# Altium footprint library relay.PCBLIB: 291 footprints (part 7 of 19)
Each footprint in its own frame and in the unit in brackets; x right, y up, seen from the top. Pads: shape width x height; smd on the part's side, far side on the other; paste and mask are expansions set on the pad; w line width, h text height; cw(c..) or ccw(c..) is an arc to the next point about the centre after c.
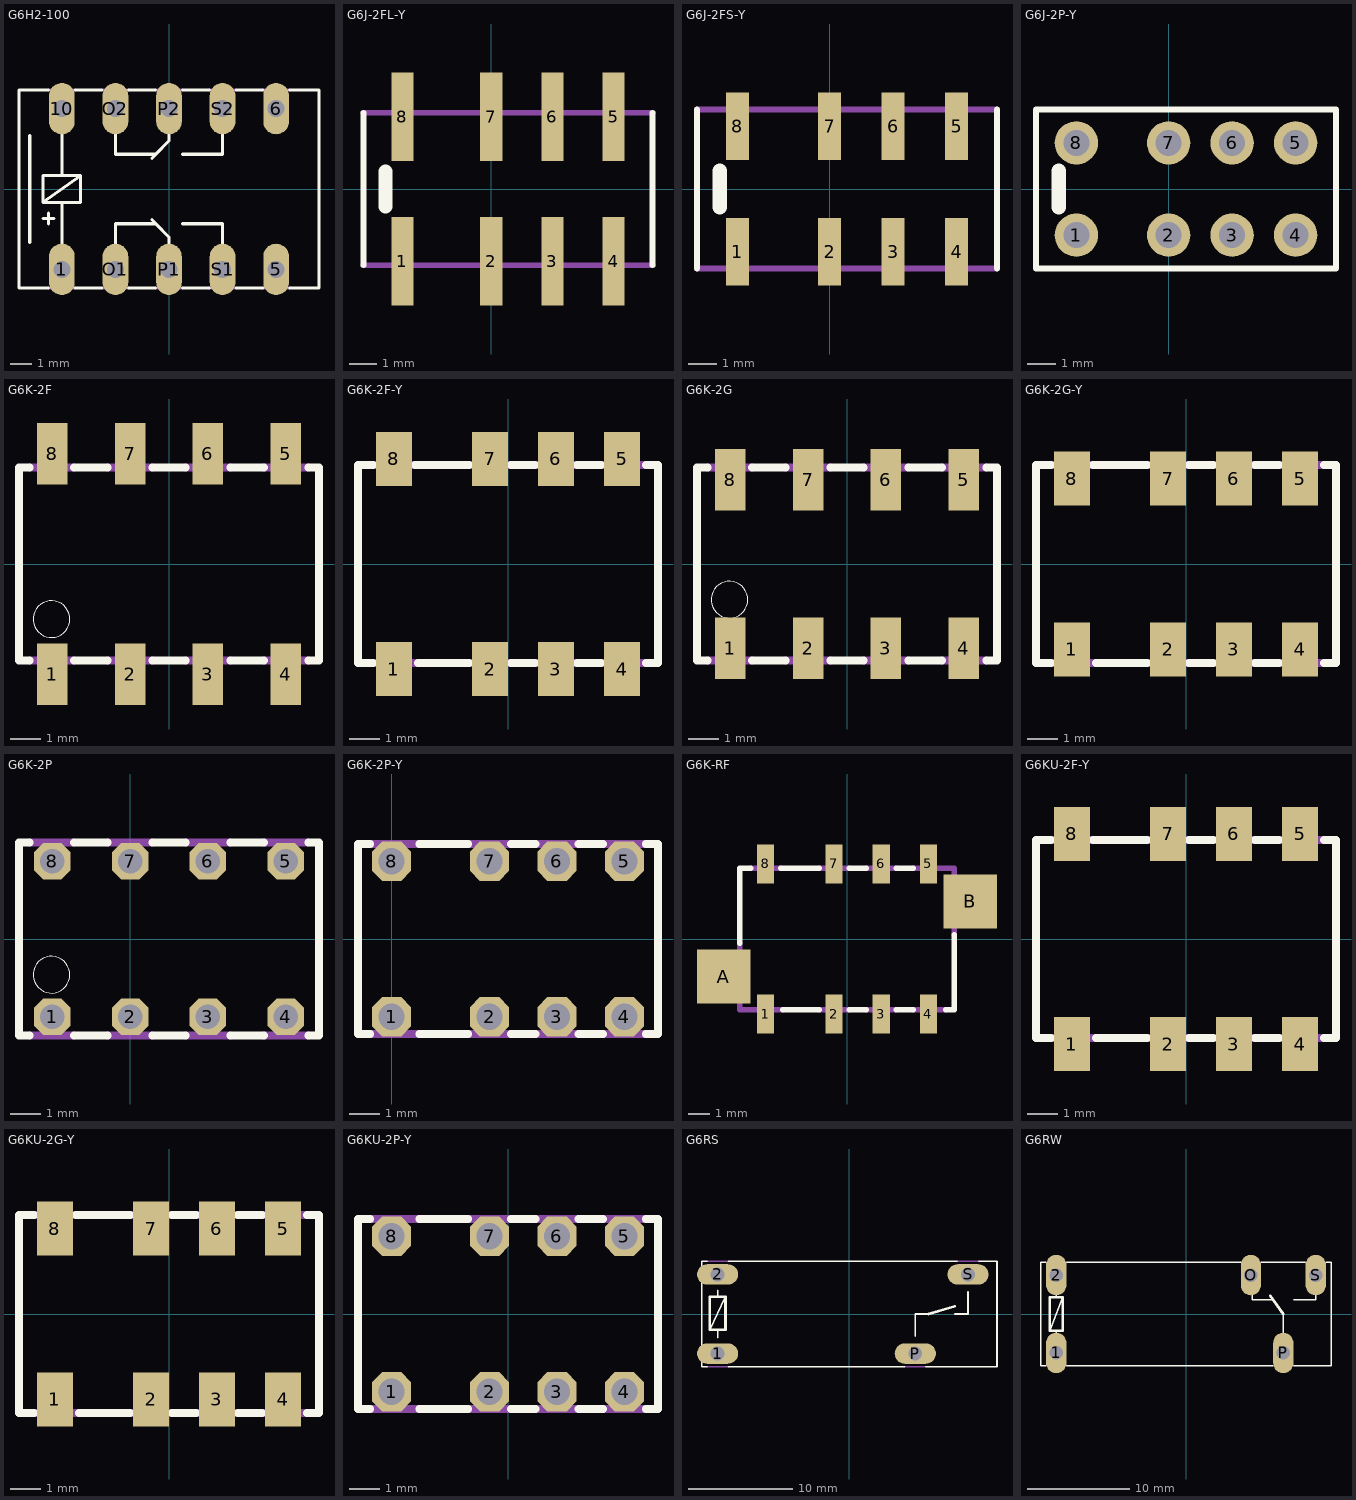
[diagram p6: the footprints below, top view; thin cyan lines are the x and y axes]

## G6H2-100 [mil]
pads (10):
  oval 48x96 hole 32: 1(-200,-150) 5(200,-150) 6(200,150) 10(-200,150) O1(-100,-150) O2(-100,150) P1(0,-150) P2(0,150) S1(100,-150) S2(100,150)
Top Overlay:
  lines w6: -260,-100 -260,100 ; -235,-55 -215,-55 ; -225,-185 -280,-185 -280,185 -225,185 ; -225,-65 -225,-45 ; -200,-115 -200,-25 ; -200,115 -200,25 ; -175,-185 -125,-185 ; -175,185 -125,185 ; -100,-115 -100,-65 -25,-65 ; -100,115 -100,65 -25,65 ; -75,-185 -25,-185 ; -75,185 -25,185 ; -32,-57 -25,-65 ; -32,57 -25,65 ; 0,-115 0,-90 -25,-65 ; 0,115 0,90 -25,65 ; 25,-185 75,-185 ; 25,-65 100,-65 100,-115 ; 25,65 100,65 100,115 ; 25,185 75,185 ; 125,-185 175,-185 ; 125,185 175,185 ; 225,-185 280,-185 280,185 225,185 ; -235,-25 -235,25 -200,25 ; -235,-25 -200,-25 ; -235,-25 -165,25 ; -200,-25 -165,-25 -165,25 ; -200,25 -165,25
Mechanical 16:
  lines w6: -225,-185 -175,-185 ; -225,185 -175,185 ; -125,-185 -75,-185 ; -125,185 -75,185 ; -25,-185 25,-185 ; -25,185 25,185 ; 75,-185 125,-185 ; 75,185 125,185 ; 175,-185 225,-185 ; 175,185 225,185
  text "G6H" at 265,-100 h60.45

## G6J-2FL-Y [mil]
pads (8):
  rect 31.5x125.98 smd: 1(-125.98,-102.36) 2(0,-102.36) 3(86.61,-102.36) 4(173.23,-102.36) 5(173.23,102.36) 6(86.61,102.36) 7(0,102.36) 8(-125.98,102.36)
Top Overlay:
  lines w8: -181.1,-108.27 -181.1,108.27 ; 228.35,-108.27 228.35,108.27
  lines w20: -150,-25 -150,25
Mechanical 16:
  lines w8: -181.1,-108.27 228.35,-108.27 ; -181.1,108.27 228.35,108.27

## G6J-2FS-Y [mm]
pads (8):
  rect 0.8x2.35 smd: 1(-3.2,-2.175) 2(0,-2.175) 3(2.2,-2.175) 4(4.4,-2.175) 5(4.4,2.175) 6(2.2,2.175) 7(0,2.175) 8(-3.2,2.175)
Top Overlay:
  lines w0.203: -4.6,-2.75 -4.6,2.75 ; 5.8,-2.75 5.8,2.75
  lines w0.508: -3.81,-0.635 -3.81,0.635
Mechanical 16:
  lines w0.203: -4.6,-2.75 5.8,-2.75 ; -4.6,2.75 5.8,2.75

## G6J-2P-Y [mil]
pads (8):
  round 59.06 hole 35.43: 1(-125.98,-62.99) 2(0,-62.99) 3(86.61,-62.99) 4(173.23,-62.99) 5(173.23,62.99) 6(86.61,62.99) 7(0,62.99) 8(-125.98,62.99)
Top Overlay:
  lines w8: -181.1,-108.27 228.35,-108.27 228.35,108.27 -181.1,108.27 -181.1,-108.27
  lines w20: -150,-25 -150,25

## G6K-2F [mm]
pads (8):
  rect 1x2 smd: 1(-3.81,-3.6) 2(-1.27,-3.6) 3(1.27,-3.6) 4(3.81,-3.6) 5(3.81,3.6) 6(1.27,3.6) 7(-1.27,3.6) 8(-3.81,3.6)
Top Overlay:
  circle w0: c-3.84,-1.8 r0.6
  lines w0.254: -4.55,-3.15 -4.9,-3.15 -4.9,3.15 -4.55,3.15 ; -3.1,-3.15 -2,-3.15 ; -3.1,3.15 -2,3.15 ; -0.55,-3.15 0.55,-3.15 ; -0.55,3.15 0.55,3.15 ; 2,-3.15 3.1,-3.15 ; 2,3.15 3.1,3.15 ; 4.55,-3.15 4.9,-3.15 4.9,3.15 4.55,3.15
Mechanical 16:
  rectangle: -4.06,-3.9 -3.56,-3.2
  rectangle: -1.52,-3.9 -1.02,-3.2
  rectangle: 1.02,-3.9 1.52,-3.2
  rectangle: 3.56,-3.9 4.06,-3.2
  rectangle: -4.06,3.2 -3.56,3.9
  rectangle: -1.52,3.2 -1.02,3.9
  rectangle: 1.02,3.2 1.52,3.9
  rectangle: 3.56,3.2 4.06,3.9
  lines w0.254: -4.55,-3.15 -3.1,-3.15 ; -4.55,3.15 -3.1,3.15 ; -2,-3.15 -0.55,-3.15 ; -2,3.15 -0.55,3.15 ; 0.55,-3.15 2,-3.15 ; 0.55,3.15 2,3.15 ; 3.1,-3.15 4.55,-3.15 ; 3.1,3.15 4.55,3.15

## G6K-2F-Y [mil]
pads (8):
  rect 47.24x70.87 smd: 1(-149.61,-137.8) 2(-23.62,-137.8) 3(62.99,-137.8) 4(149.61,-137.8) 5(149.61,137.8) 6(62.99,137.8) 7(-23.62,137.8) 8(-149.61,137.8)
Top Overlay:
  lines w10: -177.17,-129.92 -196.85,-129.92 -196.85,129.92 -177.17,129.92 ; -122.05,129.92 -51.18,129.92 ; -118.11,-129.92 -51.18,-129.92 ; 3.94,-129.92 35.43,-129.92 ; 3.94,129.92 35.43,129.92 ; 90.55,-129.92 122.05,-129.92 ; 90.55,129.92 122.05,129.92 ; 181.1,-129.92 196.85,-129.92 196.85,129.92 181.1,129.92
Mechanical 16:
  rectangle: -159.45,-153.54 -139.76,-133.86
  rectangle: -33.46,-153.54 -13.78,-133.86
  rectangle: 53.15,-153.54 72.83,-133.86
  rectangle: 139.76,-153.54 159.45,-133.86
  rectangle: 139.76,133.86 159.45,153.54
  rectangle: 53.15,133.86 72.83,153.54
  rectangle: -33.46,133.86 -13.78,153.54
  rectangle: -159.45,133.86 -139.76,153.54
  lines w10: -177.17,-129.92 -118.11,-129.92 ; -177.17,129.92 -122.05,129.92 ; -51.18,-129.92 3.94,-129.92 ; -51.18,129.92 3.94,129.92 ; 35.43,-129.92 90.55,-129.92 ; 35.43,129.92 90.55,129.92 ; 122.05,-129.92 181.1,-129.92 ; 122.05,129.92 181.1,129.92

## G6K-2G [mm]
pads (8):
  rect 1x2 smd: 1(-3.81,-2.75) 2(-1.27,-2.75) 3(1.27,-2.75) 4(3.81,-2.75) 5(3.81,2.75) 6(1.27,2.75) 7(-1.27,2.75) 8(-3.81,2.75)
Top Overlay:
  circle w0: c-3.84,-1.165 r0.6
  lines w0.254: -4.55,-3.15 -4.9,-3.15 -4.9,3.15 -4.55,3.15 ; -3.1,-3.15 -2,-3.15 ; -3.1,3.15 -2,3.15 ; -0.55,-3.15 0.55,-3.15 ; -0.55,3.15 0.55,3.15 ; 2,-3.15 3.1,-3.15 ; 2,3.15 3.1,3.15 ; 4.55,-3.15 4.9,-3.15 4.9,3.15 4.55,3.15
Mechanical 16:
  rectangle: -4.06,-3.15 -3.56,-2.45
  rectangle: -1.52,-3.15 -1.02,-2.45
  rectangle: 1.02,-3.15 1.52,-2.45
  rectangle: 3.56,-3.15 4.06,-2.45
  rectangle: -4.06,2.45 -3.56,3.15
  rectangle: -1.52,2.45 -1.02,3.15
  rectangle: 1.02,2.45 1.52,3.15
  rectangle: 3.56,2.45 4.06,3.15
  lines w0.254: -4.55,-3.15 -3.1,-3.15 ; -4.55,3.15 -3.1,3.15 ; -2,-3.15 -0.55,-3.15 ; -2,3.15 -0.55,3.15 ; 0.55,-3.15 2,-3.15 ; 0.55,3.15 2,3.15 ; 3.1,-3.15 4.55,-3.15 ; 3.1,3.15 4.55,3.15

## G6K-2G-Y [mil]
pads (8):
  rect 47.24x70.87 smd: 1(-149.61,-112.2) 2(-23.62,-112.2) 3(62.99,-112.2) 4(149.61,-112.2) 5(149.61,112.2) 6(62.99,112.2) 7(-23.62,112.2) 8(-149.61,112.2)
Top Overlay:
  lines w10: -177.17,-129.92 -196.85,-129.92 -196.85,129.92 -177.17,129.92 ; -122.05,129.92 -51.18,129.92 ; -118.11,-129.92 -51.18,-129.92 ; 3.94,-129.92 35.43,-129.92 ; 3.94,129.92 35.43,129.92 ; 90.55,-129.92 122.05,-129.92 ; 90.55,129.92 122.05,129.92 ; 181.1,-129.92 196.85,-129.92 196.85,129.92 181.1,129.92
Mechanical 16:
  rectangle: -159.45,96.46 -139.76,127.95
  rectangle: -33.46,96.46 -13.78,127.95
  rectangle: 53.15,96.46 72.83,127.95
  rectangle: 139.76,96.46 159.45,127.95
  rectangle: 139.76,-127.95 159.45,-96.46
  rectangle: 53.15,-127.95 72.83,-96.46
  rectangle: -33.46,-127.95 -13.78,-96.46
  rectangle: -159.45,-127.95 -139.76,-96.46
  lines w10: -177.17,-129.92 -118.11,-129.92 ; -177.17,129.92 -122.05,129.92 ; -51.18,-129.92 3.94,-129.92 ; -51.18,129.92 3.94,129.92 ; 35.43,-129.92 90.55,-129.92 ; 35.43,129.92 90.55,129.92 ; 122.05,-129.92 181.1,-129.92 ; 122.05,129.92 181.1,129.92

## G6K-2P [mil]
pads (8):
  oct 47.25x47.25 hole 31.5: 1(-100,-100) 2(0,-100) 3(100,-100) 4(200,-100) 5(200,100) 6(100,100) 7(0,100) 8(-100,100)
Top Overlay:
  circle w0: c-101.18,-45.87 r23.62
  lines w10: -129.13,-124.02 -142.91,-124.02 -142.91,124.02 -129.13,124.02 ; -72.05,-124.02 -28.74,-124.02 ; -72.05,124.02 -28.74,124.02 ; 28.35,-124.02 71.65,-124.02 ; 28.35,124.02 71.65,124.02 ; 128.74,-124.02 172.05,-124.02 ; 128.74,124.02 172.05,124.02 ; 229.13,-124.02 242.91,-124.02 242.91,124.02 229.13,124.02
Mechanical 16:
  lines w10: -129.13,-124.02 -72.05,-124.02 ; -129.13,124.02 -72.05,124.02 ; -28.74,-124.02 28.35,-124.02 ; -28.74,124.02 28.35,124.02 ; 71.65,-124.02 128.74,-124.02 ; 71.65,124.02 128.74,124.02 ; 172.05,-124.02 229.13,-124.02 ; 172.05,124.02 229.13,124.02

## G6K-2P-Y [mil]
pads (8):
  oct 50.19x50.19 hole 33.46: 1(0,-100) 2(125.98,-100) 3(212.6,-100) 4(299.21,-100) 5(299.21,100) 6(212.6,100) 7(125.98,100) 8(0,100)
Top Overlay:
  lines w10: -27.56,-122.05 -43.31,-122.05 -43.31,122.05 -27.56,122.05 ; 35.43,-122.05 98.43,-122.05 ; 35.43,122.05 98.43,122.05 ; 153.54,-122.05 185.04,-122.05 ; 153.54,122.05 185.04,122.05 ; 240.16,-122.05 271.65,-122.05 ; 240.16,122.05 271.65,122.05 ; 326.77,-122.05 342.52,-122.05 342.52,122.05 326.77,122.05
Mechanical 16:
  lines w10: -27.56,-122.05 35.43,-122.05 ; -27.56,122.05 35.43,122.05 ; 98.43,-122.05 153.54,-122.05 ; 98.43,122.05 153.54,122.05 ; 185.04,-122.05 240.16,-122.05 ; 185.04,122.05 240.16,122.05 ; 271.65,-122.05 326.77,-122.05 ; 271.65,122.05 326.77,122.05

## G6K-RF [mil]
pads (10):
  rect 31.5x70.87 smd: 1(-149.61,-137.8) 2(-23.62,-137.8) 3(62.99,-137.8) 4(149.61,-137.8) 5(149.61,137.8) 6(62.99,137.8) 7(-23.62,137.8) 8(-149.61,137.8)
  rect 98.43x98.43 smd: A(-226.38,-68.9) B(226.38,68.9)
Top Overlay:
  lines w10: -196.85,-7.87 -196.85,129.92 -177.17,129.92 ; -122.05,129.92 -51.18,129.92 ; -118.11,-129.92 -51.18,-129.92 ; 3.94,-129.92 35.43,-129.92 ; 3.94,129.92 35.43,129.92 ; 90.55,-129.92 122.05,-129.92 ; 90.55,129.92 122.05,129.92 ; 181.1,-129.92 196.85,-129.92 196.85,7.87
Mechanical 16:
  rectangle: -251.97,-110.24 -200.79,-27.56
  rectangle: -159.45,-153.54 -139.76,-133.86
  rectangle: -33.46,-153.54 -13.78,-133.86
  rectangle: 53.15,-153.54 72.83,-133.86
  rectangle: 139.76,-153.54 159.45,-133.86
  rectangle: 139.76,133.86 159.45,153.54
  rectangle: 53.15,133.86 72.83,153.54
  rectangle: -33.46,133.86 -13.78,153.54
  rectangle: -159.45,133.86 -139.76,153.54
  rectangle: 200.79,27.56 251.97,110.24
  lines w10: -196.85,-7.87 -196.85,-129.92 -118.11,-129.92 ; -177.17,129.92 -122.05,129.92 ; -51.18,-129.92 3.94,-129.92 ; -51.18,129.92 3.94,129.92 ; 35.43,-129.92 90.55,-129.92 ; 35.43,129.92 90.55,129.92 ; 122.05,-129.92 181.1,-129.92 ; 122.05,129.92 196.85,129.92 196.85,7.87

## G6KU-2F-Y [mil]
pads (8):
  rect 47.24x70.87 smd: 1(-149.61,-137.8) 2(-23.62,-137.8) 3(62.99,-137.8) 4(149.61,-137.8) 5(149.61,137.8) 6(62.99,137.8) 7(-23.62,137.8) 8(-149.61,137.8)
Top Overlay:
  lines w10: -177.17,-129.92 -196.85,-129.92 -196.85,129.92 -177.17,129.92 ; -122.05,129.92 -51.18,129.92 ; -118.11,-129.92 -51.18,-129.92 ; 3.94,-129.92 35.43,-129.92 ; 3.94,129.92 35.43,129.92 ; 90.55,-129.92 122.05,-129.92 ; 90.55,129.92 122.05,129.92 ; 181.1,-129.92 196.85,-129.92 196.85,129.92 181.1,129.92
Mechanical 16:
  rectangle: -159.45,-153.54 -139.76,-133.86
  rectangle: -33.46,-153.54 -13.78,-133.86
  rectangle: 53.15,-153.54 72.83,-133.86
  rectangle: 139.76,-153.54 159.45,-133.86
  rectangle: 139.76,133.86 159.45,153.54
  rectangle: 53.15,133.86 72.83,153.54
  rectangle: -33.46,133.86 -13.78,153.54
  rectangle: -159.45,133.86 -139.76,153.54
  lines w10: -177.17,-129.92 -118.11,-129.92 ; -177.17,129.92 -122.05,129.92 ; -51.18,-129.92 3.94,-129.92 ; -51.18,129.92 3.94,129.92 ; 35.43,-129.92 90.55,-129.92 ; 35.43,129.92 90.55,129.92 ; 122.05,-129.92 181.1,-129.92 ; 122.05,129.92 181.1,129.92

## G6KU-2G-Y [mil]
pads (8):
  rect 47.24x70.87 smd: 1(-149.61,-112.2) 2(-23.62,-112.2) 3(62.99,-112.2) 4(149.61,-112.2) 5(149.61,112.2) 6(62.99,112.2) 7(-23.62,112.2) 8(-149.61,112.2)
Top Overlay:
  lines w10: -177.17,-129.92 -196.85,-129.92 -196.85,129.92 -177.17,129.92 ; -122.05,129.92 -51.18,129.92 ; -118.11,-129.92 -51.18,-129.92 ; 3.94,-129.92 35.43,-129.92 ; 3.94,129.92 35.43,129.92 ; 90.55,-129.92 122.05,-129.92 ; 90.55,129.92 122.05,129.92 ; 181.1,-129.92 196.85,-129.92 196.85,129.92 181.1,129.92
Mechanical 16:
  rectangle: -159.45,96.46 -139.76,127.95
  rectangle: -33.46,96.46 -13.78,127.95
  rectangle: 53.15,96.46 72.83,127.95
  rectangle: 139.76,96.46 159.45,127.95
  rectangle: 139.76,-127.95 159.45,-96.46
  rectangle: 53.15,-127.95 72.83,-96.46
  rectangle: -33.46,-127.95 -13.78,-96.46
  rectangle: -159.45,-127.95 -139.76,-96.46
  lines w10: -177.17,-129.92 -118.11,-129.92 ; -177.17,129.92 -122.05,129.92 ; -51.18,-129.92 3.94,-129.92 ; -51.18,129.92 3.94,129.92 ; 35.43,-129.92 90.55,-129.92 ; 35.43,129.92 90.55,129.92 ; 122.05,-129.92 181.1,-129.92 ; 122.05,129.92 181.1,129.92

## G6KU-2P-Y [mil]
pads (8):
  oct 50.19x50.19 hole 33.46: 1(-149.61,-100) 2(-23.62,-100) 3(62.99,-100) 4(149.61,-100) 5(149.61,100) 6(62.99,100) 7(-23.62,100) 8(-149.61,100)
Top Overlay:
  lines w10: -177.17,-122.05 -192.91,-122.05 -192.91,122.05 -177.17,122.05 ; -114.17,-122.05 -51.18,-122.05 ; -114.17,122.05 -51.18,122.05 ; 3.94,-122.05 35.43,-122.05 ; 3.94,122.05 35.43,122.05 ; 90.55,-122.05 122.05,-122.05 ; 90.55,122.05 122.05,122.05 ; 177.17,-122.05 192.91,-122.05 192.91,122.05 177.17,122.05
Mechanical 16:
  lines w10: -177.17,-122.05 -114.17,-122.05 ; -177.17,122.05 -114.17,122.05 ; -51.18,-122.05 3.94,-122.05 ; -51.18,122.05 3.94,122.05 ; 35.43,-122.05 90.55,-122.05 ; 35.43,122.05 90.55,122.05 ; 122.05,-122.05 177.17,-122.05 ; 122.05,122.05 177.17,122.05

## G6RS [mil]
pads (4):
  oval 156x78 hole 52: 1(-500,-150) 2(-500,150) P(250,-150) S(450,150)
Top Overlay:
  lines w6: -540,-200 -560,-200 -560,200 -540,200 ; -530,-60 -470,65 ; -500,-90 -500,-60 ; -500,65 -500,90 ; -460,-200 210,-200 ; -460,200 410,200 ; 250,-85 250,0 300,0 ; 290,-200 560,-200 560,200 490,200 ; 400,0 450,0 450,85
  lines w10: 300,0 400,30 ; -530,-60 -530,65 -500,65 -470,65 -470,-60 -500,-60 -530,-60
Mechanical 16:
  lines w6: -540,-200 -460,-200 ; -540,200 -460,200 ; 210,-200 290,-200 ; 410,200 490,200

## G6RW [mil]
pads (5):
  oval 78x156 hole 52: 1(-500,-150) 2(-500,150) O(250,150) P(375,-150) S(500,150)
Top Overlay:
  lines w6: -540,-200 -560,-200 -560,200 -540,200 ; -525,-65 -475,65 ; -500,-90 -500,-65 ; -500,65 -500,90 ; -460,-200 335,-200 ; -460,200 210,200 ; 255,85 255,55 335,55 ; 290,200 460,200 ; 375,-85 375,0 ; 415,-200 560,-200 560,200 540,200 ; 415,55 500,55 500,85
  lines w10: 325,70 375,0 ; -525,-65 -525,65 -500,65 -475,65 -475,-65 -500,-65 -525,-65
Mechanical 16:
  lines w6: -540,-200 -460,-200 ; -540,200 -460,200 ; 210,200 290,200 ; 335,-200 415,-200 ; 460,200 540,200